# Altium schematic symbol library STM32F303K8T6.SchLib: 1 symbol
Pins are listed as number, name and electrical type; pins without a type are passive.

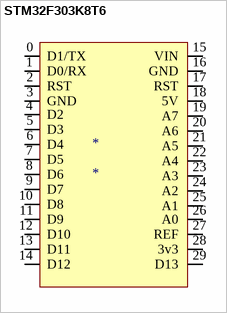
[diagram p0: symbol STM32F303K8T6]

## STM32F303K8T6
designator *
footprint STMicroelectronics_0_MFG
pins: 0 D1/TX, 1 D0/RX, 2 RST, 3 GND, 4 D2, 5 D3, 6 D4, 7 D5, 8 D6, 9 D7, 10 D8, 11 D9, 12 D10, 13 D11, 14 D12, 15 VIN, 16 GND, 17 RST, 18 5V, 19 A7, 20 A6, 21 A5, 22 A4, 23 A3, 24 A2, 25 A1, 26 A0, 27 REF, 28 3v3, 29 D13